# Altium integrated library NSC MiscPower.IntLib: 1417 symbols (part 16 of 39)
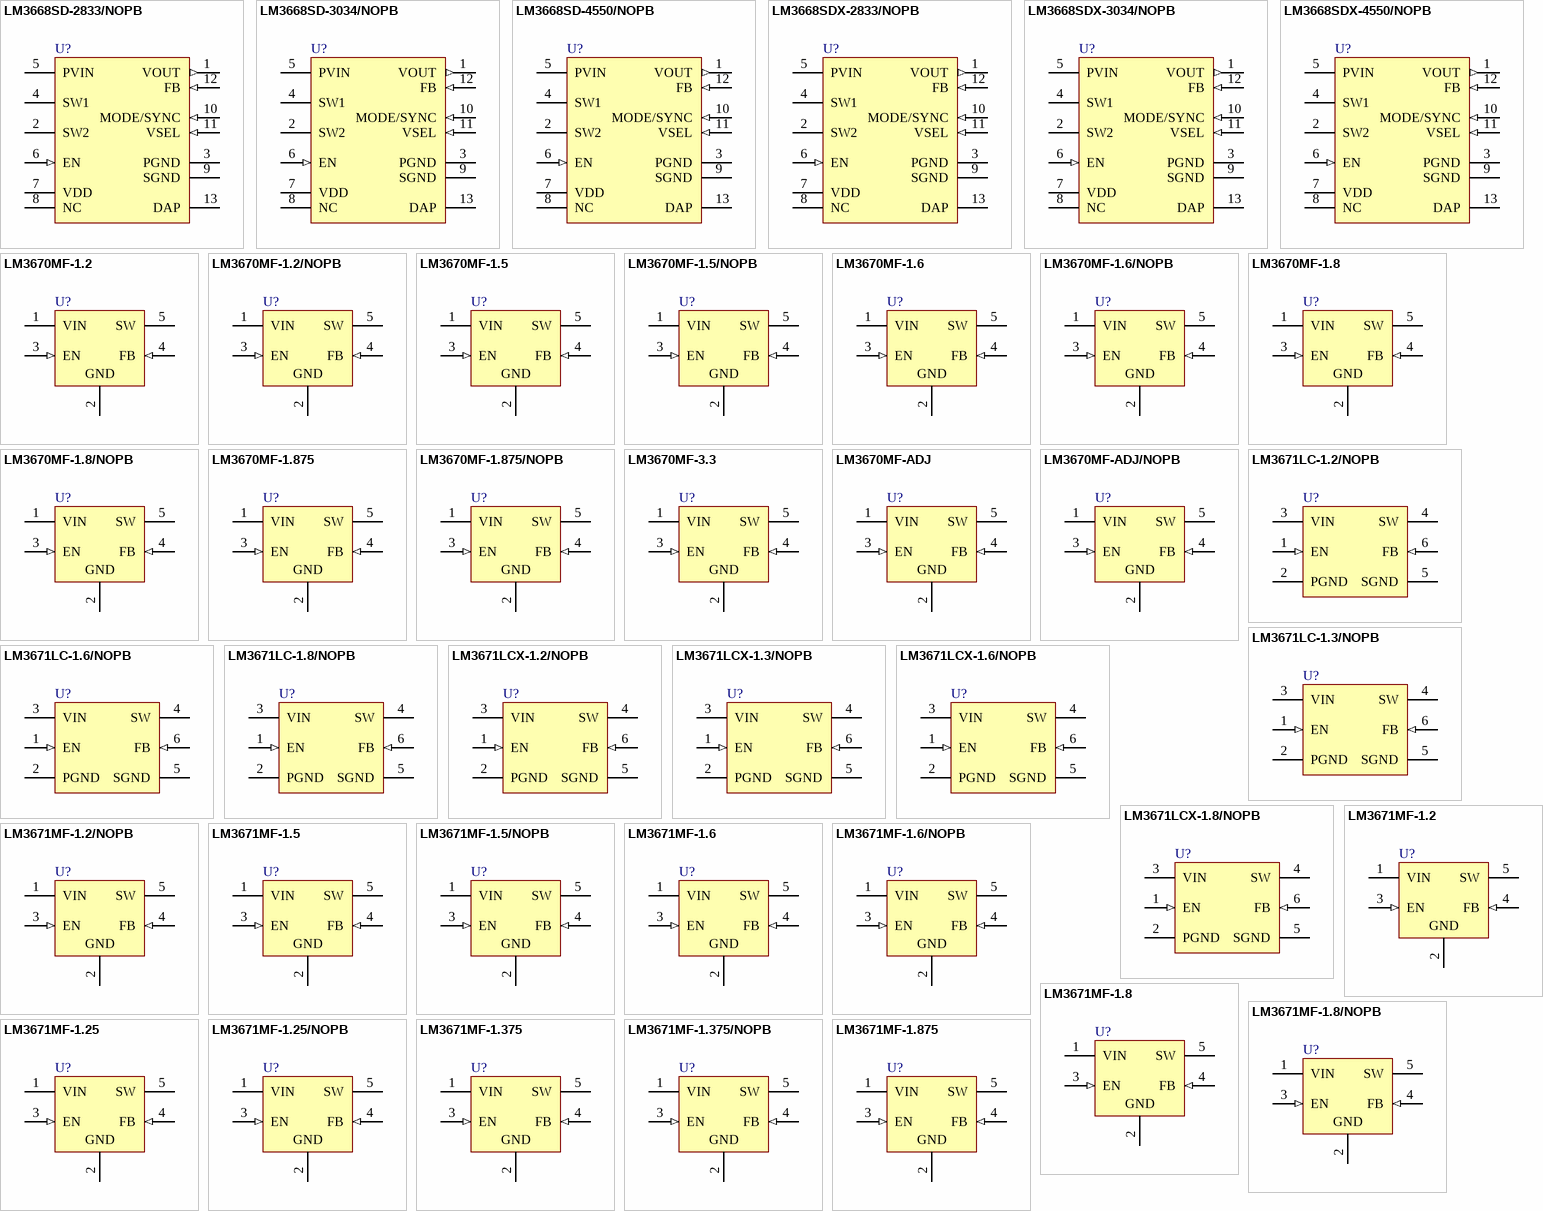
[diagram p66: symbols LM3668SD-2833/NOPB to LM3671MF-1.875]

## LM3670MF-3.3
designator U?
Miniature Step-Down DC-DC Converter for Ultra Low Voltage Circuits, 5-pin SOT-23; PartNumber: LM3670MF-3.3; Manufacturer: National Semiconductor; PackageTopMarking: SDEB*XTT; PowerWise: Y; CompType: MiscPower; Published: 4-Dec-2008; DatasheetVersion: Jan-2006; PackageVersion: revD, Aug-2008; PackageReference: MF05A; Publisher: Altium Limited; PackageDescription: Molded SOT-23, .115 x .063 x .040 in Body, 5 Lead, .0375 in Pitch; RoHS: N; PinCount: 5; ComponentLink1Description: LM3670 Datasheet; ComponentLink1URL: http://www.national.com/ds/LM/LM3670.pdf; ComponentLink2Description: LM3670 Web Page; ComponentLink2URL: http://www.national.com/pf/LM/LM3670.html; ComponentLink3Description: MF05A Package Page; ComponentLink3URL: http://www.national.com/packaging/folders/mf05a.html
footprint MF05A_N (SOT23, 5-Leads, Body 2.9x1.6mm, Pitch 0.95mm, Lead Span 2.8mm, IPC Medium Density)
footprint MF05A_L (SOT23, 5-Leads, Body 2.9x1.6mm, Pitch 0.95mm, Lead Span 2.8mm, IPC High Density)
footprint MF05A_M (SOT23, 5-Leads, Body 2.9x1.6mm, Pitch 0.95mm, Lead Span 2.8mm, IPC Low Density)
pins: 1 VIN (power), 2 GND (power), 3 EN (in), 4 FB (in), 5 SW (power)

## LM3670MF-ADJ
designator U?
Miniature Step-Down DC-DC Converter for Ultra Low Voltage Circuits, 5-pin SOT-23; PartNumber: LM3670MF-ADJ; Manufacturer: National Semiconductor; PackageTopMarking: SDFB*XTT; PowerWise: Y; CompType: MiscPower; Published: 4-Dec-2008; DatasheetVersion: Jan-2006; PackageVersion: revD, Aug-2008; PackageReference: MF05A; Publisher: Altium Limited; PackageDescription: Molded SOT-23, .115 x .063 x .040 in Body, 5 Lead, .0375 in Pitch; Supplier 1: Farnell; Supplier Part Number 1: 1008247; RoHS: N; PinCount: 5; ComponentLink1Description: LM3670 Datasheet; ComponentLink1URL: http://www.national.com/ds/LM/LM3670.pdf; ComponentLink2Description: LM3670 Web Page; ComponentLink2URL: http://www.national.com/pf/LM/LM3670.html; ComponentLink3Description: MF05A Package Page; ComponentLink3URL: http://www.national.com/packaging/folders/mf05a.html
footprint MF05A_N (SOT23, 5-Leads, Body 2.9x1.6mm, Pitch 0.95mm, Lead Span 2.8mm, IPC Medium Density)
footprint MF05A_L (SOT23, 5-Leads, Body 2.9x1.6mm, Pitch 0.95mm, Lead Span 2.8mm, IPC High Density)
footprint MF05A_M (SOT23, 5-Leads, Body 2.9x1.6mm, Pitch 0.95mm, Lead Span 2.8mm, IPC Low Density)
pins: 1 VIN (power), 2 GND (power), 3 EN (in), 4 FB (in), 5 SW (power)

## LM3670MF-ADJ/NOPB
designator U?
Miniature Step-Down DC-DC Converter for Ultra Low Voltage Circuits, 5-pin SOT-23, Pb-Free; PartNumber: LM3670MF-ADJ/NOPB; Manufacturer: National Semiconductor; PackageTopMarking: SDFB*XTT; PowerWise: Y; CompType: MiscPower; Published: 1-Mar-2010; DatasheetVersion: Jan-2006; PackageVersion: revD, Aug-2008; PackageReference: MF05A; Publisher: Altium Limited; PackageDescription: Molded SOT-23, .115 x .063 x .040 in Body, 5 Lead, .0375 in Pitch; Supplier 1: Digi-Key; Supplier Part Number 1: LM3670MF-ADJTR-ND; Supplier 2: Digi-Key; Supplier Part Number 2: LM3670MF-ADJCT-ND; Supplier 3: Digi-Key; Supplier Part Number 3: LM3670MF-ADJDKR-ND; Supplier 4: Farnell; Supplier Part Number 4: 1559453; RoHS: Y; PinCount: 5; ComponentLink1Description: LM3670 Datasheet; ComponentLink1URL: http://www.national.com/ds/LM/LM3670.pdf; ComponentLink2Description: LM3670 Web Page; ComponentLink2URL: http://www.national.com/pf/LM/LM3670.html; ComponentLink3Description: MF05A Package Page; ComponentLink3URL: http://www.national.com/packaging/folders/mf05a.html
footprint MF05A_N (SOT23, 5-Leads, Body 2.9x1.6mm, Pitch 0.95mm, Lead Span 2.8mm, IPC Medium Density)
footprint MF05A_L (SOT23, 5-Leads, Body 2.9x1.6mm, Pitch 0.95mm, Lead Span 2.8mm, IPC High Density)
footprint MF05A_M (SOT23, 5-Leads, Body 2.9x1.6mm, Pitch 0.95mm, Lead Span 2.8mm, IPC Low Density)
pins: 1 VIN (power), 2 GND (power), 3 EN (in), 4 FB (in), 5 SW (power)

## LM3671LC-1.2/NOPB
designator U?
2MHz, 600mA Step-Down DC-DC Converter, 6-pin LLP COL, Pb-Free; PartNumber: LM3671LC-1.2/NOPB; Manufacturer: National Semiconductor; PackageTopMarking: XTT*S39; PowerWise: N; CompType: MiscPower; Published: 1-Mar-2010; DatasheetVersion: Nov-2007; PackageVersion: revA, Oct-2006; PackageReference: LCA06B; Publisher: Altium Limited; PackageDescription: LLP, 2 x 2 x 0.6mm, 6 Lead, 0.5mm Pitch, No Pullback; Supplier 1: Digi-Key; Supplier Part Number 1: LM3671LC-1.2TR-ND; Supplier 2: Digi-Key; Supplier Part Number 2: LM3671LC-1.2CT-ND; Supplier 3: Digi-Key; Supplier Part Number 3: LM3671LC-1.2DKR-ND; RoHS: Y; PinCount: 6; ComponentLink1Description: LM3671 Datasheet; ComponentLink1URL: http://www.national.com/ds/LM/LM3671.pdf; ComponentLink2Description: LM3671 Web Page; ComponentLink2URL: http://www.national.com/pf/LM/LM3671.html; ComponentLink3Description: LCA06B Package Page; ComponentLink3URL: http://www.national.com/packaging/folders/lca06b.html
footprint LCA06B (SON, 6-Leads, Body 2x2mm, Pitch 0.5mm, NSC Recommended)
pins: 1 EN (in), 2 PGND (power), 3 VIN (power), 4 SW (power), 5 SGND (power), 6 FB (in)

## LM3671LC-1.3/NOPB
designator U?
2MHz, 600mA Step-Down DC-DC Converter, 6-pin LLP COL, Pb-Free; PartNumber: LM3671LC-1.3/NOPB; Manufacturer: National Semiconductor; PackageTopMarking: XTT*S40; PowerWise: N; CompType: MiscPower; Published: 1-Mar-2010; DatasheetVersion: Oct-2008; PackageVersion: revA, Oct-2006; PackageReference: LCA06B; Publisher: Altium Limited; PackageDescription: LLP, 2 x 2 x 0.6mm, 6 Lead, 0.5mm Pitch, No Pullback; Supplier 1: Digi-Key; Supplier Part Number 1: LM3671LC-1.3TR-ND; Supplier 2: Digi-Key; Supplier Part Number 2: LM3671LC-1.3CT-ND; Supplier 3: Digi-Key; Supplier Part Number 3: LM3671LC-1.3DKR-ND; RoHS: Y; PinCount: 6; ComponentLink1Description: LM3671 Datasheet; ComponentLink1URL: http://www.national.com/ds/LM/LM3671.pdf; ComponentLink2Description: LM3671 Web Page; ComponentLink2URL: http://www.national.com/pf/LM/LM3671.html; ComponentLink3Description: LCA06B Package Page; ComponentLink3URL: http://www.national.com/packaging/folders/lca06b.html
footprint LCA06B (SON, 6-Leads, Body 2x2mm, Pitch 0.5mm, NSC Recommended)
pins: 1 EN (in), 2 PGND (power), 3 VIN (power), 4 SW (power), 5 SGND (power), 6 FB (in)

## LM3671LC-1.6/NOPB
designator U?
2MHz, 600mA Step-Down DC-DC Converter, 6-pin LLP COL, Pb-Free; PartNumber: LM3671LC-1.6/NOPB; Manufacturer: National Semiconductor; PackageTopMarking: XTT*S41; PowerWise: N; CompType: MiscPower; Published: 1-Mar-2010; DatasheetVersion: Oct-2008; PackageVersion: revA, Oct-2006; PackageReference: LCA06B; Publisher: Altium Limited; PackageDescription: LLP, 2 x 2 x 0.6mm, 6 Lead, 0.5mm Pitch, No Pullback; Supplier 1: Digi-Key; Supplier Part Number 1: LM3671LC-1.6TR-ND; Supplier 2: Digi-Key; Supplier Part Number 2: LM3671LC-1.6CT-ND; Supplier 3: Digi-Key; Supplier Part Number 3: LM3671LC-1.6DKR-ND; RoHS: Y; PinCount: 6; ComponentLink1Description: LM3671 Datasheet; ComponentLink1URL: http://www.national.com/ds/LM/LM3671.pdf; ComponentLink2Description: LM3671 Web Page; ComponentLink2URL: http://www.national.com/pf/LM/LM3671.html; ComponentLink3Description: LCA06B Package Page; ComponentLink3URL: http://www.national.com/packaging/folders/lca06b.html
footprint LCA06B (SON, 6-Leads, Body 2x2mm, Pitch 0.5mm, NSC Recommended)
pins: 1 EN (in), 2 PGND (power), 3 VIN (power), 4 SW (power), 5 SGND (power), 6 FB (in)

## LM3671LC-1.8/NOPB
designator U?
2MHz, 600mA Step-Down DC-DC Converter, 6-pin LLP COL, Pb-Free; PartNumber: LM3671LC-1.8/NOPB; Manufacturer: National Semiconductor; PackageTopMarking: XTT*S42; PowerWise: N; CompType: MiscPower; Published: 1-Mar-2010; DatasheetVersion: Oct-2008; PackageVersion: revA, Oct-2006; PackageReference: LCA06B; Publisher: Altium Limited; PackageDescription: LLP, 2 x 2 x 0.6mm, 6 Lead, 0.5mm Pitch, No Pullback; Supplier 1: Digi-Key; Supplier Part Number 1: LM3671LC-1.8TR-ND; Supplier 2: Digi-Key; Supplier Part Number 2: LM3671LC-1.8CT-ND; Supplier 3: Digi-Key; Supplier Part Number 3: LM3671LC-1.8DKR-ND; RoHS: Y; PinCount: 6; ComponentLink1Description: LM3671 Datasheet; ComponentLink1URL: http://www.national.com/ds/LM/LM3671.pdf; ComponentLink2Description: LM3671 Web Page; ComponentLink2URL: http://www.national.com/pf/LM/LM3671.html; ComponentLink3Description: LCA06B Package Page; ComponentLink3URL: http://www.national.com/packaging/folders/lca06b.html
footprint LCA06B (SON, 6-Leads, Body 2x2mm, Pitch 0.5mm, NSC Recommended)
pins: 1 EN (in), 2 PGND (power), 3 VIN (power), 4 SW (power), 5 SGND (power), 6 FB (in)

## LM3671LCX-1.2/NOPB
designator U?
2MHz, 600mA Step-Down DC-DC Converter, 6-pin LLP COL, Pb-Free; PartNumber: LM3671LCX-1.2/NOPB; Manufacturer: National Semiconductor; PackageTopMarking: XTT*S39; PowerWise: N; CompType: MiscPower; Published: 1-Mar-2010; DatasheetVersion: Nov-2007; PackageVersion: revA, Oct-2006; PackageReference: LCA06B; Publisher: Altium Limited; PackageDescription: LLP, 2 x 2 x 0.6mm, 6 Lead, 0.5mm Pitch, No Pullback; Supplier 1: Digi-Key; Supplier Part Number 1: LM3671LCX-1.2-ND; RoHS: Y; PinCount: 6; ComponentLink1Description: LM3671 Datasheet; ComponentLink1URL: http://www.national.com/ds/LM/LM3671.pdf; ComponentLink2Description: LM3671 Web Page; ComponentLink2URL: http://www.national.com/pf/LM/LM3671.html; ComponentLink3Description: LCA06B Package Page; ComponentLink3URL: http://www.national.com/packaging/folders/lca06b.html
footprint LCA06B (SON, 6-Leads, Body 2x2mm, Pitch 0.5mm, NSC Recommended)
pins: 1 EN (in), 2 PGND (power), 3 VIN (power), 4 SW (power), 5 SGND (power), 6 FB (in)

## LM3671LCX-1.3/NOPB
designator U?
2MHz, 600mA Step-Down DC-DC Converter, 6-pin LLP COL, Pb-Free; PartNumber: LM3671LCX-1.3/NOPB; Manufacturer: National Semiconductor; PackageTopMarking: XTT*S40; PowerWise: N; CompType: MiscPower; Published: 1-Mar-2010; DatasheetVersion: Nov-2007; PackageVersion: revA, Oct-2006; PackageReference: LCA06B; Publisher: Altium Limited; PackageDescription: LLP, 2 x 2 x 0.6mm, 6 Lead, 0.5mm Pitch, No Pullback; Supplier 1: Digi-Key; Supplier Part Number 1: LM3671LCX-1.3-ND; RoHS: Y; PinCount: 6; ComponentLink1Description: LM3671 Datasheet; ComponentLink1URL: http://www.national.com/ds/LM/LM3671.pdf; ComponentLink2Description: LM3671 Web Page; ComponentLink2URL: http://www.national.com/pf/LM/LM3671.html; ComponentLink3Description: LCA06B Package Page; ComponentLink3URL: http://www.national.com/packaging/folders/lca06b.html
footprint LCA06B (SON, 6-Leads, Body 2x2mm, Pitch 0.5mm, NSC Recommended)
pins: 1 EN (in), 2 PGND (power), 3 VIN (power), 4 SW (power), 5 SGND (power), 6 FB (in)

## LM3671LCX-1.6/NOPB
designator U?
2MHz, 600mA Step-Down DC-DC Converter, 6-pin LLP COL, Pb-Free; PartNumber: LM3671LCX-1.6/NOPB; Manufacturer: National Semiconductor; PackageTopMarking: XTT*S41; PowerWise: N; CompType: MiscPower; Published: 1-Mar-2010; DatasheetVersion: Nov-2007; PackageVersion: revA, Oct-2006; PackageReference: LCA06B; Publisher: Altium Limited; PackageDescription: LLP, 2 x 2 x 0.6mm, 6 Lead, 0.5mm Pitch, No Pullback; Supplier 1: Digi-Key; Supplier Part Number 1: LM3671LCX-1.6-ND; RoHS: Y; PinCount: 6; ComponentLink1Description: LM3671 Datasheet; ComponentLink1URL: http://www.national.com/ds/LM/LM3671.pdf; ComponentLink2Description: LM3671 Web Page; ComponentLink2URL: http://www.national.com/pf/LM/LM3671.html; ComponentLink3Description: LCA06B Package Page; ComponentLink3URL: http://www.national.com/packaging/folders/lca06b.html
footprint LCA06B (SON, 6-Leads, Body 2x2mm, Pitch 0.5mm, NSC Recommended)
pins: 1 EN (in), 2 PGND (power), 3 VIN (power), 4 SW (power), 5 SGND (power), 6 FB (in)

## LM3671LCX-1.8/NOPB
designator U?
2MHz, 600mA Step-Down DC-DC Converter, 6-pin LLP COL, Pb-Free; PartNumber: LM3671LCX-1.8/NOPB; Manufacturer: National Semiconductor; PackageTopMarking: XTT*S42; PowerWise: N; CompType: MiscPower; Published: 1-Mar-2010; DatasheetVersion: Nov-2007; PackageVersion: revA, Oct-2006; PackageReference: LCA06B; Publisher: Altium Limited; PackageDescription: LLP, 2 x 2 x 0.6mm, 6 Lead, 0.5mm Pitch, No Pullback; Supplier 1: Digi-Key; Supplier Part Number 1: LM3671LCX-1.8-ND; RoHS: Y; PinCount: 6; ComponentLink1Description: LM3671 Datasheet; ComponentLink1URL: http://www.national.com/ds/LM/LM3671.pdf; ComponentLink2Description: LM3671 Web Page; ComponentLink2URL: http://www.national.com/pf/LM/LM3671.html; ComponentLink3Description: LCA06B Package Page; ComponentLink3URL: http://www.national.com/packaging/folders/lca06b.html
footprint LCA06B (SON, 6-Leads, Body 2x2mm, Pitch 0.5mm, NSC Recommended)
pins: 1 EN (in), 2 PGND (power), 3 VIN (power), 4 SW (power), 5 SGND (power), 6 FB (in)

## LM3671MF-1.2
designator U?
2MHz, 600mA Step-Down DC-DC Converter, 5-pin SOT-23; PartNumber: LM3671MF-1.2; Manufacturer: National Semiconductor; PackageTopMarking: SBPB*XTT; PowerWise: Y; CompType: MiscPower; Published: 4-Dec-2008; DatasheetVersion: Oct-2008; PackageVersion: revD, Aug-2008; PackageReference: MF05A; Publisher: Altium Limited; PackageDescription: Molded SOT-23, .115 x .063 x .040 in Body, 5 Lead, .0375 in Pitch; Supplier 1: Farnell; Supplier Part Number 1: 1008248; RoHS: N; PinCount: 5; ComponentLink1Description: LM3671 Datasheet; ComponentLink1URL: http://www.national.com/ds/LM/LM3671.pdf; ComponentLink2Description: LM3671 Web Page; ComponentLink2URL: http://www.national.com/pf/LM/LM3671.html; ComponentLink3Description: MF05A Package Page; ComponentLink3URL: http://www.national.com/packaging/folders/mf05a.html
footprint MF05A_N (SOT23, 5-Leads, Body 2.9x1.6mm, Pitch 0.95mm, Lead Span 2.8mm, IPC Medium Density)
footprint MF05A_L (SOT23, 5-Leads, Body 2.9x1.6mm, Pitch 0.95mm, Lead Span 2.8mm, IPC High Density)
footprint MF05A_M (SOT23, 5-Leads, Body 2.9x1.6mm, Pitch 0.95mm, Lead Span 2.8mm, IPC Low Density)
pins: 1 VIN (power), 2 GND (power), 3 EN (in), 4 FB (in), 5 SW (power)

## LM3671MF-1.2/NOPB
designator U?
2MHz, 600mA Step-Down DC-DC Converter, 5-pin SOT-23, Pb-Free; PartNumber: LM3671MF-1.2/NOPB; Manufacturer: National Semiconductor; PackageTopMarking: SBPB*XTT; PowerWise: Y; CompType: MiscPower; Published: 1-Mar-2010; DatasheetVersion: Oct-2008; PackageVersion: revD, Aug-2008; PackageReference: MF05A; Publisher: Altium Limited; PackageDescription: Molded SOT-23, .115 x .063 x .040 in Body, 5 Lead, .0375 in Pitch; Supplier 1: Digi-Key; Supplier Part Number 1: LM3671MF-1.2TR-ND; Supplier 2: Digi-Key; Supplier Part Number 2: LM3671MF-1.2CT-ND; Supplier 3: Digi-Key; Supplier Part Number 3: LM3671MF-1.2DKR-ND; Supplier 4: Farnell; Supplier Part Number 4: 1685653; RoHS: Y; PinCount: 5; ComponentLink1Description: LM3671 Datasheet; ComponentLink1URL: http://www.national.com/ds/LM/LM3671.pdf; ComponentLink2Description: LM3671 Web Page; ComponentLink2URL: http://www.national.com/pf/LM/LM3671.html; ComponentLink3Description: MF05A Package Page; ComponentLink3URL: http://www.national.com/packaging/folders/mf05a.html
footprint MF05A_N (SOT23, 5-Leads, Body 2.9x1.6mm, Pitch 0.95mm, Lead Span 2.8mm, IPC Medium Density)
footprint MF05A_L (SOT23, 5-Leads, Body 2.9x1.6mm, Pitch 0.95mm, Lead Span 2.8mm, IPC High Density)
footprint MF05A_M (SOT23, 5-Leads, Body 2.9x1.6mm, Pitch 0.95mm, Lead Span 2.8mm, IPC Low Density)
pins: 1 VIN (power), 2 GND (power), 3 EN (in), 4 FB (in), 5 SW (power)

## LM3671MF-1.5
designator U?
2MHz, 600mA Step-Down DC-DC Converter, 5-pin SOT-23; PartNumber: LM3671MF-1.5; Manufacturer: National Semiconductor; PackageTopMarking: SBRB*XTT; PowerWise: Y; CompType: MiscPower; Published: 4-Dec-2008; DatasheetVersion: Oct-2008; PackageVersion: revD, Aug-2008; PackageReference: MF05A; Publisher: Altium Limited; PackageDescription: Molded SOT-23, .115 x .063 x .040 in Body, 5 Lead, .0375 in Pitch; Supplier 1: Farnell; Supplier Part Number 1: 1008253; RoHS: N; PinCount: 5; ComponentLink1Description: LM3671 Datasheet; ComponentLink1URL: http://www.national.com/ds/LM/LM3671.pdf; ComponentLink2Description: LM3671 Web Page; ComponentLink2URL: http://www.national.com/pf/LM/LM3671.html; ComponentLink3Description: MF05A Package Page; ComponentLink3URL: http://www.national.com/packaging/folders/mf05a.html
footprint MF05A_N (SOT23, 5-Leads, Body 2.9x1.6mm, Pitch 0.95mm, Lead Span 2.8mm, IPC Medium Density)
footprint MF05A_L (SOT23, 5-Leads, Body 2.9x1.6mm, Pitch 0.95mm, Lead Span 2.8mm, IPC High Density)
footprint MF05A_M (SOT23, 5-Leads, Body 2.9x1.6mm, Pitch 0.95mm, Lead Span 2.8mm, IPC Low Density)
pins: 1 VIN (power), 2 GND (power), 3 EN (in), 4 FB (in), 5 SW (power)

## LM3671MF-1.5/NOPB
designator U?
2MHz, 600mA Step-Down DC-DC Converter, 5-pin SOT-23, Pb-Free; PartNumber: LM3671MF-1.5/NOPB; Manufacturer: National Semiconductor; PackageTopMarking: SBRB*XTT; PowerWise: Y; CompType: MiscPower; Published: 1-Mar-2010; DatasheetVersion: Oct-2008; PackageVersion: revD, Aug-2008; PackageReference: MF05A; Publisher: Altium Limited; PackageDescription: Molded SOT-23, .115 x .063 x .040 in Body, 5 Lead, .0375 in Pitch; Supplier 1: Digi-Key; Supplier Part Number 1: LM3671MF-1.5TR-ND; Supplier 2: Digi-Key; Supplier Part Number 2: LM3671MF-1.5CT-ND; Supplier 3: Digi-Key; Supplier Part Number 3: LM3671MF-1.5DKR-ND; Supplier 4: Farnell; Supplier Part Number 4: 1694016; RoHS: Y; PinCount: 5; ComponentLink1Description: LM3671 Datasheet; ComponentLink1URL: http://www.national.com/ds/LM/LM3671.pdf; ComponentLink2Description: LM3671 Web Page; ComponentLink2URL: http://www.national.com/pf/LM/LM3671.html; ComponentLink3Description: MF05A Package Page; ComponentLink3URL: http://www.national.com/packaging/folders/mf05a.html
footprint MF05A_N (SOT23, 5-Leads, Body 2.9x1.6mm, Pitch 0.95mm, Lead Span 2.8mm, IPC Medium Density)
footprint MF05A_L (SOT23, 5-Leads, Body 2.9x1.6mm, Pitch 0.95mm, Lead Span 2.8mm, IPC High Density)
footprint MF05A_M (SOT23, 5-Leads, Body 2.9x1.6mm, Pitch 0.95mm, Lead Span 2.8mm, IPC Low Density)
pins: 1 VIN (power), 2 GND (power), 3 EN (in), 4 FB (in), 5 SW (power)

## LM3671MF-1.6
designator U?
2MHz, 600mA Step-Down DC-DC Converter, 5-pin SOT-23; PartNumber: LM3671MF-1.6; Manufacturer: National Semiconductor; PackageTopMarking: SDUB*XTT; PowerWise: Y; CompType: MiscPower; Published: 4-Dec-2008; DatasheetVersion: Oct-2008; PackageVersion: revD, Aug-2008; PackageReference: MF05A; Publisher: Altium Limited; PackageDescription: Molded SOT-23, .115 x .063 x .040 in Body, 5 Lead, .0375 in Pitch; Supplier 1: Digi-Key; Supplier Part Number 1: LM3671MF-1.6TR-ND; Supplier 2: Digi-Key; Supplier Part Number 2: LM3671MF-1.6CT-ND; Supplier 3: Digi-Key; Supplier Part Number 3: LM3671MF-1.6DKR-ND; Supplier 4: Farnell; Supplier Part Number 4: 1008254; RoHS: N; PinCount: 5; ComponentLink1Description: LM3671 Datasheet; ComponentLink1URL: http://www.national.com/ds/LM/LM3671.pdf; ComponentLink2Description: LM3671 Web Page; ComponentLink2URL: http://www.national.com/pf/LM/LM3671.html; ComponentLink3Description: MF05A Package Page; ComponentLink3URL: http://www.national.com/packaging/folders/mf05a.html
footprint MF05A_N (SOT23, 5-Leads, Body 2.9x1.6mm, Pitch 0.95mm, Lead Span 2.8mm, IPC Medium Density)
footprint MF05A_L (SOT23, 5-Leads, Body 2.9x1.6mm, Pitch 0.95mm, Lead Span 2.8mm, IPC High Density)
footprint MF05A_M (SOT23, 5-Leads, Body 2.9x1.6mm, Pitch 0.95mm, Lead Span 2.8mm, IPC Low Density)
pins: 1 VIN (power), 2 GND (power), 3 EN (in), 4 FB (in), 5 SW (power)

## LM3671MF-1.6/NOPB
designator U?
2MHz, 600mA Step-Down DC-DC Converter, 5-pin SOT-23, Pb-Free; PartNumber: LM3671MF-1.6/NOPB; Manufacturer: National Semiconductor; PackageTopMarking: SDUB*XTT; PowerWise: Y; CompType: MiscPower; Published: 1-Mar-2010; DatasheetVersion: Oct-2008; PackageVersion: revD, Aug-2008; PackageReference: MF05A; Publisher: Altium Limited; PackageDescription: Molded SOT-23, .115 x .063 x .040 in Body, 5 Lead, .0375 in Pitch; RoHS: Y; PinCount: 5; ComponentLink1Description: LM3671 Datasheet; ComponentLink1URL: http://www.national.com/ds/LM/LM3671.pdf; ComponentLink2Description: LM3671 Web Page; ComponentLink2URL: http://www.national.com/pf/LM/LM3671.html; ComponentLink3Description: MF05A Package Page; ComponentLink3URL: http://www.national.com/packaging/folders/mf05a.html
footprint MF05A_N (SOT23, 5-Leads, Body 2.9x1.6mm, Pitch 0.95mm, Lead Span 2.8mm, IPC Medium Density)
footprint MF05A_L (SOT23, 5-Leads, Body 2.9x1.6mm, Pitch 0.95mm, Lead Span 2.8mm, IPC High Density)
footprint MF05A_M (SOT23, 5-Leads, Body 2.9x1.6mm, Pitch 0.95mm, Lead Span 2.8mm, IPC Low Density)
pins: 1 VIN (power), 2 GND (power), 3 EN (in), 4 FB (in), 5 SW (power)

## LM3671MF-1.8
designator U?
2MHz, 600mA Step-Down DC-DC Converter, 5-pin SOT-23; PartNumber: LM3671MF-1.8; Manufacturer: National Semiconductor; PackageTopMarking: SBSB*XTT; PowerWise: Y; CompType: MiscPower; Published: 4-Dec-2008; DatasheetVersion: Oct-2008; PackageVersion: revD, Aug-2008; PackageReference: MF05A; Publisher: Altium Limited; PackageDescription: Molded SOT-23, .115 x .063 x .040 in Body, 5 Lead, .0375 in Pitch; RoHS: N; PinCount: 5; ComponentLink1Description: LM3671 Datasheet; ComponentLink1URL: http://www.national.com/ds/LM/LM3671.pdf; ComponentLink2Description: LM3671 Web Page; ComponentLink2URL: http://www.national.com/pf/LM/LM3671.html; ComponentLink3Description: MF05A Package Page; ComponentLink3URL: http://www.national.com/packaging/folders/mf05a.html
footprint MF05A_N (SOT23, 5-Leads, Body 2.9x1.6mm, Pitch 0.95mm, Lead Span 2.8mm, IPC Medium Density)
footprint MF05A_L (SOT23, 5-Leads, Body 2.9x1.6mm, Pitch 0.95mm, Lead Span 2.8mm, IPC High Density)
footprint MF05A_M (SOT23, 5-Leads, Body 2.9x1.6mm, Pitch 0.95mm, Lead Span 2.8mm, IPC Low Density)
pins: 1 VIN (power), 2 GND (power), 3 EN (in), 4 FB (in), 5 SW (power)

## LM3671MF-1.8/NOPB
designator U?
2MHz, 600mA Step-Down DC-DC Converter, 5-pin SOT-23, Pb-Free; PartNumber: LM3671MF-1.8/NOPB; Manufacturer: National Semiconductor; PackageTopMarking: SBSB*XTT; PowerWise: Y; CompType: MiscPower; Published: 1-Mar-2010; DatasheetVersion: Oct-2008; PackageVersion: revD, Aug-2008; PackageReference: MF05A; Publisher: Altium Limited; PackageDescription: Molded SOT-23, .115 x .063 x .040 in Body, 5 Lead, .0375 in Pitch; Supplier 1: Digi-Key; Supplier Part Number 1: LM3671MF-1.8TR-ND; Supplier 2: Digi-Key; Supplier Part Number 2: LM3671MF-1.8CT-ND; Supplier 3: Digi-Key; Supplier Part Number 3: LM3671MF-1.8DKR-ND; Supplier 4: Farnell; Supplier Part Number 4: 1685654; RoHS: Y; PinCount: 5; ComponentLink1Description: LM3671 Datasheet; ComponentLink1URL: http://www.national.com/ds/LM/LM3671.pdf; ComponentLink2Description: LM3671 Web Page; ComponentLink2URL: http://www.national.com/pf/LM/LM3671.html; ComponentLink3Description: MF05A Package Page; ComponentLink3URL: http://www.national.com/packaging/folders/mf05a.html
footprint MF05A_N (SOT23, 5-Leads, Body 2.9x1.6mm, Pitch 0.95mm, Lead Span 2.8mm, IPC Medium Density)
footprint MF05A_L (SOT23, 5-Leads, Body 2.9x1.6mm, Pitch 0.95mm, Lead Span 2.8mm, IPC High Density)
footprint MF05A_M (SOT23, 5-Leads, Body 2.9x1.6mm, Pitch 0.95mm, Lead Span 2.8mm, IPC Low Density)
pins: 1 VIN (power), 2 GND (power), 3 EN (in), 4 FB (in), 5 SW (power)

## LM3671MF-1.25
designator U?
2MHz, 600mA Step-Down DC-DC Converter, 5-pin SOT-23; PartNumber: LM3671MF-1.25; Manufacturer: National Semiconductor; PackageTopMarking: SDRB*XTT; PowerWise: Y; CompType: MiscPower; Published: 4-Dec-2008; DatasheetVersion: Oct-2008; PackageVersion: revD, Aug-2008; PackageReference: MF05A; Publisher: Altium Limited; PackageDescription: Molded SOT-23, .115 x .063 x .040 in Body, 5 Lead, .0375 in Pitch; Supplier 1: Farnell; Supplier Part Number 1: 1008251; RoHS: N; PinCount: 5; ComponentLink1Description: LM3671 Datasheet; ComponentLink1URL: http://www.national.com/ds/LM/LM3671.pdf; ComponentLink2Description: LM3671 Web Page; ComponentLink2URL: http://www.national.com/pf/LM/LM3671.html; ComponentLink3Description: MF05A Package Page; ComponentLink3URL: http://www.national.com/packaging/folders/mf05a.html
footprint MF05A_N (SOT23, 5-Leads, Body 2.9x1.6mm, Pitch 0.95mm, Lead Span 2.8mm, IPC Medium Density)
footprint MF05A_L (SOT23, 5-Leads, Body 2.9x1.6mm, Pitch 0.95mm, Lead Span 2.8mm, IPC High Density)
footprint MF05A_M (SOT23, 5-Leads, Body 2.9x1.6mm, Pitch 0.95mm, Lead Span 2.8mm, IPC Low Density)
pins: 1 VIN (power), 2 GND (power), 3 EN (in), 4 FB (in), 5 SW (power)

## LM3671MF-1.25/NOPB
designator U?
2MHz, 600mA Step-Down DC-DC Converter, 5-pin SOT-23, Pb-Free; PartNumber: LM3671MF-1.25/NOPB; Manufacturer: National Semiconductor; PackageTopMarking: SDRB*XTT; PowerWise: Y; CompType: MiscPower; Published: 1-Mar-2010; DatasheetVersion: Oct-2008; PackageVersion: revD, Aug-2008; PackageReference: MF05A; Publisher: Altium Limited; PackageDescription: Molded SOT-23, .115 x .063 x .040 in Body, 5 Lead, .0375 in Pitch; Supplier 1: Digi-Key; Supplier Part Number 1: LM3671MF-1.25TR-ND; Supplier 2: Digi-Key; Supplier Part Number 2: LM3671MF-1.25CT-ND; Supplier 3: Digi-Key; Supplier Part Number 3: LM3671MF-1.25DKR-ND; RoHS: Y; PinCount: 5; ComponentLink1Description: LM3671 Datasheet; ComponentLink1URL: http://www.national.com/ds/LM/LM3671.pdf; ComponentLink2Description: LM3671 Web Page; ComponentLink2URL: http://www.national.com/pf/LM/LM3671.html; ComponentLink3Description: MF05A Package Page; ComponentLink3URL: http://www.national.com/packaging/folders/mf05a.html
footprint MF05A_N (SOT23, 5-Leads, Body 2.9x1.6mm, Pitch 0.95mm, Lead Span 2.8mm, IPC Medium Density)
footprint MF05A_L (SOT23, 5-Leads, Body 2.9x1.6mm, Pitch 0.95mm, Lead Span 2.8mm, IPC High Density)
footprint MF05A_M (SOT23, 5-Leads, Body 2.9x1.6mm, Pitch 0.95mm, Lead Span 2.8mm, IPC Low Density)
pins: 1 VIN (power), 2 GND (power), 3 EN (in), 4 FB (in), 5 SW (power)

## LM3671MF-1.375
designator U?
2MHz, 600mA Step-Down DC-DC Converter, 5-pin SOT-23; PartNumber: LM3671MF-1.375; Manufacturer: National Semiconductor; PackageTopMarking: SEDB*XTT; PowerWise: Y; CompType: MiscPower; Published: 4-Dec-2008; DatasheetVersion: Oct-2008; PackageVersion: revD, Aug-2008; PackageReference: MF05A; Publisher: Altium Limited; PackageDescription: Molded SOT-23, .115 x .063 x .040 in Body, 5 Lead, .0375 in Pitch; Supplier 1: Farnell; Supplier Part Number 1: 1008252; RoHS: N; PinCount: 5; ComponentLink1Description: LM3671 Datasheet; ComponentLink1URL: http://www.national.com/ds/LM/LM3671.pdf; ComponentLink2Description: LM3671 Web Page; ComponentLink2URL: http://www.national.com/pf/LM/LM3671.html; ComponentLink3Description: MF05A Package Page; ComponentLink3URL: http://www.national.com/packaging/folders/mf05a.html
footprint MF05A_N (SOT23, 5-Leads, Body 2.9x1.6mm, Pitch 0.95mm, Lead Span 2.8mm, IPC Medium Density)
footprint MF05A_L (SOT23, 5-Leads, Body 2.9x1.6mm, Pitch 0.95mm, Lead Span 2.8mm, IPC High Density)
footprint MF05A_M (SOT23, 5-Leads, Body 2.9x1.6mm, Pitch 0.95mm, Lead Span 2.8mm, IPC Low Density)
pins: 1 VIN (power), 2 GND (power), 3 EN (in), 4 FB (in), 5 SW (power)

## LM3671MF-1.375/NOPB
designator U?
2MHz, 600mA Step-Down DC-DC Converter, 5-pin SOT-23, Pb-Free; PartNumber: LM3671MF-1.375/NOPB; Manufacturer: National Semiconductor; PackageTopMarking: SEDB*XTT; PowerWise: Y; CompType: MiscPower; Published: 1-Mar-2010; DatasheetVersion: Oct-2008; PackageVersion: revD, Aug-2008; PackageReference: MF05A; Publisher: Altium Limited; PackageDescription: Molded SOT-23, .115 x .063 x .040 in Body, 5 Lead, .0375 in Pitch; Supplier 1: Digi-Key; Supplier Part Number 1: LM3671MF-1.375TR-ND; Supplier 2: Digi-Key; Supplier Part Number 2: LM3671MF-1.375CT-ND; Supplier 3: Digi-Key; Supplier Part Number 3: LM3671MF-1.375DKR-ND; RoHS: Y; PinCount: 5; ComponentLink1Description: LM3671 Datasheet; ComponentLink1URL: http://www.national.com/ds/LM/LM3671.pdf; ComponentLink2Description: LM3671 Web Page; ComponentLink2URL: http://www.national.com/pf/LM/LM3671.html; ComponentLink3Description: MF05A Package Page; ComponentLink3URL: http://www.national.com/packaging/folders/mf05a.html
footprint MF05A_N (SOT23, 5-Leads, Body 2.9x1.6mm, Pitch 0.95mm, Lead Span 2.8mm, IPC Medium Density)
footprint MF05A_L (SOT23, 5-Leads, Body 2.9x1.6mm, Pitch 0.95mm, Lead Span 2.8mm, IPC High Density)
footprint MF05A_M (SOT23, 5-Leads, Body 2.9x1.6mm, Pitch 0.95mm, Lead Span 2.8mm, IPC Low Density)
pins: 1 VIN (power), 2 GND (power), 3 EN (in), 4 FB (in), 5 SW (power)

## LM3671MF-1.875
designator U?
2MHz, 600mA Step-Down DC-DC Converter, 5-pin SOT-23; PartNumber: LM3671MF-1.875; Manufacturer: National Semiconductor; PackageTopMarking: SDVB*XTT; PowerWise: Y; CompType: MiscPower; Published: 4-Dec-2008; DatasheetVersion: Oct-2008; PackageVersion: revD, Aug-2008; PackageReference: MF05A; Publisher: Altium Limited; PackageDescription: Molded SOT-23, .115 x .063 x .040 in Body, 5 Lead, .0375 in Pitch; Supplier 1: Farnell; Supplier Part Number 1: 1008255; RoHS: N; PinCount: 5; ComponentLink1Description: LM3671 Datasheet; ComponentLink1URL: http://www.national.com/ds/LM/LM3671.pdf; ComponentLink2Description: LM3671 Web Page; ComponentLink2URL: http://www.national.com/pf/LM/LM3671.html; ComponentLink3Description: MF05A Package Page; ComponentLink3URL: http://www.national.com/packaging/folders/mf05a.html
footprint MF05A_N (SOT23, 5-Leads, Body 2.9x1.6mm, Pitch 0.95mm, Lead Span 2.8mm, IPC Medium Density)
footprint MF05A_L (SOT23, 5-Leads, Body 2.9x1.6mm, Pitch 0.95mm, Lead Span 2.8mm, IPC High Density)
footprint MF05A_M (SOT23, 5-Leads, Body 2.9x1.6mm, Pitch 0.95mm, Lead Span 2.8mm, IPC Low Density)
pins: 1 VIN (power), 2 GND (power), 3 EN (in), 4 FB (in), 5 SW (power)

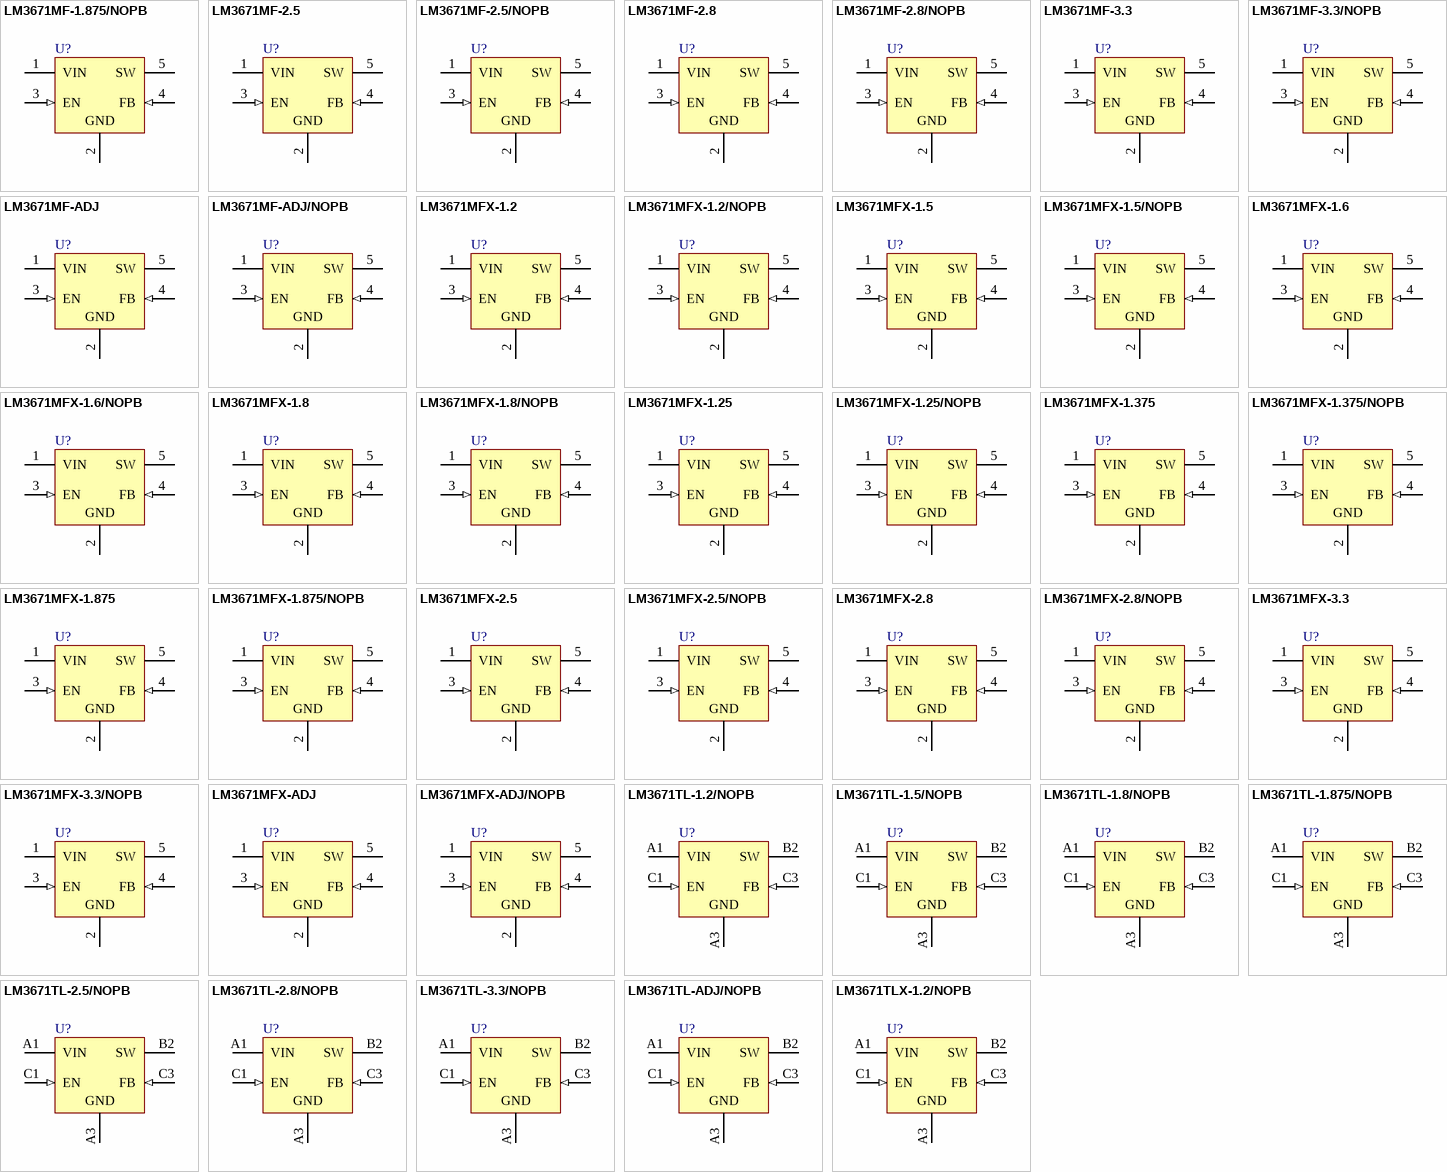
[diagram p18: symbols LM3671MF-1.875/NOPB to LM3671TLX-1.2/NOPB]

## LM3671MF-1.875/NOPB
designator U?
2MHz, 600mA Step-Down DC-DC Converter, 5-pin SOT-23, Pb-Free; PartNumber: LM3671MF-1.875/NOPB; Manufacturer: National Semiconductor; PackageTopMarking: SDVB*XTT; PowerWise: Y; CompType: MiscPower; Published: 1-Mar-2010; DatasheetVersion: Oct-2008; PackageVersion: revD, Aug-2008; PackageReference: MF05A; Publisher: Altium Limited; PackageDescription: Molded SOT-23, .115 x .063 x .040 in Body, 5 Lead, .0375 in Pitch; Supplier 1: Digi-Key; Supplier Part Number 1: LM3671MF-1.875TR-ND; Supplier 2: Digi-Key; Supplier Part Number 2: LM3671MF-1.875CT-ND; Supplier 3: Digi-Key; Supplier Part Number 3: LM3671MF-1.875DKR-ND; RoHS: Y; PinCount: 5; ComponentLink1Description: LM3671 Datasheet; ComponentLink1URL: http://www.national.com/ds/LM/LM3671.pdf; ComponentLink2Description: LM3671 Web Page; ComponentLink2URL: http://www.national.com/pf/LM/LM3671.html; ComponentLink3Description: MF05A Package Page; ComponentLink3URL: http://www.national.com/packaging/folders/mf05a.html
footprint MF05A_N (SOT23, 5-Leads, Body 2.9x1.6mm, Pitch 0.95mm, Lead Span 2.8mm, IPC Medium Density)
footprint MF05A_L (SOT23, 5-Leads, Body 2.9x1.6mm, Pitch 0.95mm, Lead Span 2.8mm, IPC High Density)
footprint MF05A_M (SOT23, 5-Leads, Body 2.9x1.6mm, Pitch 0.95mm, Lead Span 2.8mm, IPC Low Density)
pins: 1 VIN (power), 2 GND (power), 3 EN (in), 4 FB (in), 5 SW (power)

## LM3671MF-2.5
designator U?
2MHz, 600mA Step-Down DC-DC Converter, 5-pin SOT-23; PartNumber: LM3671MF-2.5; Manufacturer: National Semiconductor; PackageTopMarking: SJRB*XTT; PowerWise: Y; CompType: MiscPower; Published: 4-Dec-2008; DatasheetVersion: Oct-2008; PackageVersion: revD, Aug-2008; PackageReference: MF05A; Publisher: Altium Limited; PackageDescription: Molded SOT-23, .115 x .063 x .040 in Body, 5 Lead, .0375 in Pitch; RoHS: N; PinCount: 5; ComponentLink1Description: LM3671 Datasheet; ComponentLink1URL: http://www.national.com/ds/LM/LM3671.pdf; ComponentLink2Description: LM3671 Web Page; ComponentLink2URL: http://www.national.com/pf/LM/LM3671.html; ComponentLink3Description: MF05A Package Page; ComponentLink3URL: http://www.national.com/packaging/folders/mf05a.html
footprint MF05A_N (SOT23, 5-Leads, Body 2.9x1.6mm, Pitch 0.95mm, Lead Span 2.8mm, IPC Medium Density)
footprint MF05A_L (SOT23, 5-Leads, Body 2.9x1.6mm, Pitch 0.95mm, Lead Span 2.8mm, IPC High Density)
footprint MF05A_M (SOT23, 5-Leads, Body 2.9x1.6mm, Pitch 0.95mm, Lead Span 2.8mm, IPC Low Density)
pins: 1 VIN (power), 2 GND (power), 3 EN (in), 4 FB (in), 5 SW (power)

## LM3671MF-2.5/NOPB
designator U?
2MHz, 600mA Step-Down DC-DC Converter, 5-pin SOT-23, Pb-Free; PartNumber: LM3671MF-2.5/NOPB; Manufacturer: National Semiconductor; PackageTopMarking: SJRB*XTT; PowerWise: Y; CompType: MiscPower; Published: 1-Mar-2010; DatasheetVersion: Oct-2008; PackageVersion: revD, Aug-2008; PackageReference: MF05A; Publisher: Altium Limited; PackageDescription: Molded SOT-23, .115 x .063 x .040 in Body, 5 Lead, .0375 in Pitch; Supplier 1: Digi-Key; Supplier Part Number 1: LM3671MF-2.5TR-ND; Supplier 2: Digi-Key; Supplier Part Number 2: LM3671MF-2.5CT-ND; Supplier 3: Digi-Key; Supplier Part Number 3: LM3671MF-2.5DKR-ND; Supplier 4: Farnell; Supplier Part Number 4: 1694624; RoHS: Y; PinCount: 5; ComponentLink1Description: LM3671 Datasheet; ComponentLink1URL: http://www.national.com/ds/LM/LM3671.pdf; ComponentLink2Description: LM3671 Web Page; ComponentLink2URL: http://www.national.com/pf/LM/LM3671.html; ComponentLink3Description: MF05A Package Page; ComponentLink3URL: http://www.national.com/packaging/folders/mf05a.html
footprint MF05A_N (SOT23, 5-Leads, Body 2.9x1.6mm, Pitch 0.95mm, Lead Span 2.8mm, IPC Medium Density)
footprint MF05A_L (SOT23, 5-Leads, Body 2.9x1.6mm, Pitch 0.95mm, Lead Span 2.8mm, IPC High Density)
footprint MF05A_M (SOT23, 5-Leads, Body 2.9x1.6mm, Pitch 0.95mm, Lead Span 2.8mm, IPC Low Density)
pins: 1 VIN (power), 2 GND (power), 3 EN (in), 4 FB (in), 5 SW (power)

## LM3671MF-2.8
designator U?
2MHz, 600mA Step-Down DC-DC Converter, 5-pin SOT-23; PartNumber: LM3671MF-2.8; Manufacturer: National Semiconductor; PackageTopMarking: SJSB*XTT; PowerWise: Y; CompType: MiscPower; Published: 4-Dec-2008; DatasheetVersion: Oct-2008; PackageVersion: revD, Aug-2008; PackageReference: MF05A; Publisher: Altium Limited; PackageDescription: Molded SOT-23, .115 x .063 x .040 in Body, 5 Lead, .0375 in Pitch; RoHS: N; PinCount: 5; ComponentLink1Description: LM3671 Datasheet; ComponentLink1URL: http://www.national.com/ds/LM/LM3671.pdf; ComponentLink2Description: LM3671 Web Page; ComponentLink2URL: http://www.national.com/pf/LM/LM3671.html; ComponentLink3Description: MF05A Package Page; ComponentLink3URL: http://www.national.com/packaging/folders/mf05a.html
footprint MF05A_N (SOT23, 5-Leads, Body 2.9x1.6mm, Pitch 0.95mm, Lead Span 2.8mm, IPC Medium Density)
footprint MF05A_L (SOT23, 5-Leads, Body 2.9x1.6mm, Pitch 0.95mm, Lead Span 2.8mm, IPC High Density)
footprint MF05A_M (SOT23, 5-Leads, Body 2.9x1.6mm, Pitch 0.95mm, Lead Span 2.8mm, IPC Low Density)
pins: 1 VIN (power), 2 GND (power), 3 EN (in), 4 FB (in), 5 SW (power)

## LM3671MF-2.8/NOPB
designator U?
2MHz, 600mA Step-Down DC-DC Converter, 5-pin SOT-23, Pb-Free; PartNumber: LM3671MF-2.8/NOPB; Manufacturer: National Semiconductor; PackageTopMarking: SJSB*XTT; PowerWise: Y; CompType: MiscPower; Published: 1-Mar-2010; DatasheetVersion: Oct-2008; PackageVersion: revD, Aug-2008; PackageReference: MF05A; Publisher: Altium Limited; PackageDescription: Molded SOT-23, .115 x .063 x .040 in Body, 5 Lead, .0375 in Pitch; Supplier 1: Digi-Key; Supplier Part Number 1: LM3671MF-2.8/NOPBTR-ND; Supplier 2: Digi-Key; Supplier Part Number 2: LM3671MF-2.8/NOPBCT-ND; Supplier 3: Digi-Key; Supplier Part Number 3: LM3671MF-2.8/NOPBDKR-ND; RoHS: Y; PinCount: 5; ComponentLink1Description: LM3671 Datasheet; ComponentLink1URL: http://www.national.com/ds/LM/LM3671.pdf; ComponentLink2Description: LM3671 Web Page; ComponentLink2URL: http://www.national.com/pf/LM/LM3671.html; ComponentLink3Description: MF05A Package Page; ComponentLink3URL: http://www.national.com/packaging/folders/mf05a.html
footprint MF05A_N (SOT23, 5-Leads, Body 2.9x1.6mm, Pitch 0.95mm, Lead Span 2.8mm, IPC Medium Density)
footprint MF05A_L (SOT23, 5-Leads, Body 2.9x1.6mm, Pitch 0.95mm, Lead Span 2.8mm, IPC High Density)
footprint MF05A_M (SOT23, 5-Leads, Body 2.9x1.6mm, Pitch 0.95mm, Lead Span 2.8mm, IPC Low Density)
pins: 1 VIN (power), 2 GND (power), 3 EN (in), 4 FB (in), 5 SW (power)

## LM3671MF-3.3
designator U?
2MHz, 600mA Step-Down DC-DC Converter, 5-pin SOT-23; PartNumber: LM3671MF-3.3; Manufacturer: National Semiconductor; PackageTopMarking: SJEB*XTT; PowerWise: Y; CompType: MiscPower; Published: 4-Dec-2008; DatasheetVersion: Oct-2008; PackageVersion: revD, Aug-2008; PackageReference: MF05A; Publisher: Altium Limited; PackageDescription: Molded SOT-23, .115 x .063 x .040 in Body, 5 Lead, .0375 in Pitch; RoHS: N; PinCount: 5; ComponentLink1Description: LM3671 Datasheet; ComponentLink1URL: http://www.national.com/ds/LM/LM3671.pdf; ComponentLink2Description: LM3671 Web Page; ComponentLink2URL: http://www.national.com/pf/LM/LM3671.html; ComponentLink3Description: MF05A Package Page; ComponentLink3URL: http://www.national.com/packaging/folders/mf05a.html
footprint MF05A_N (SOT23, 5-Leads, Body 2.9x1.6mm, Pitch 0.95mm, Lead Span 2.8mm, IPC Medium Density)
footprint MF05A_L (SOT23, 5-Leads, Body 2.9x1.6mm, Pitch 0.95mm, Lead Span 2.8mm, IPC High Density)
footprint MF05A_M (SOT23, 5-Leads, Body 2.9x1.6mm, Pitch 0.95mm, Lead Span 2.8mm, IPC Low Density)
pins: 1 VIN (power), 2 GND (power), 3 EN (in), 4 FB (in), 5 SW (power)

## LM3671MF-3.3/NOPB
designator U?
2MHz, 600mA Step-Down DC-DC Converter, 5-pin SOT-23, Pb-Free; PartNumber: LM3671MF-3.3/NOPB; Manufacturer: National Semiconductor; PackageTopMarking: SJEB*XTT; PowerWise: Y; CompType: MiscPower; Published: 1-Mar-2010; DatasheetVersion: Oct-2008; PackageVersion: revD, Aug-2008; PackageReference: MF05A; Publisher: Altium Limited; PackageDescription: Molded SOT-23, .115 x .063 x .040 in Body, 5 Lead, .0375 in Pitch; Supplier 1: Digi-Key; Supplier Part Number 1: LM3671MF-3.3TR-ND; Supplier 2: Digi-Key; Supplier Part Number 2: LM3671MF-3.3CT-ND; Supplier 3: Digi-Key; Supplier Part Number 3: LM3671MF-3.3DKR-ND; Supplier 4: Farnell; Supplier Part Number 4: 1685767; RoHS: Y; PinCount: 5; ComponentLink1Description: LM3671 Datasheet; ComponentLink1URL: http://www.national.com/ds/LM/LM3671.pdf; ComponentLink2Description: LM3671 Web Page; ComponentLink2URL: http://www.national.com/pf/LM/LM3671.html; ComponentLink3Description: MF05A Package Page; ComponentLink3URL: http://www.national.com/packaging/folders/mf05a.html
footprint MF05A_N (SOT23, 5-Leads, Body 2.9x1.6mm, Pitch 0.95mm, Lead Span 2.8mm, IPC Medium Density)
footprint MF05A_L (SOT23, 5-Leads, Body 2.9x1.6mm, Pitch 0.95mm, Lead Span 2.8mm, IPC High Density)
footprint MF05A_M (SOT23, 5-Leads, Body 2.9x1.6mm, Pitch 0.95mm, Lead Span 2.8mm, IPC Low Density)
pins: 1 VIN (power), 2 GND (power), 3 EN (in), 4 FB (in), 5 SW (power)

## LM3671MF-ADJ
designator U?
2MHz, 600mA Step-Down DC-DC Converter, 5-pin SOT-23; PartNumber: LM3671MF-ADJ; Manufacturer: National Semiconductor; PackageTopMarking: SBTB*XTT; PowerWise: Y; CompType: MiscPower; Published: 4-Dec-2008; DatasheetVersion: Oct-2008; PackageVersion: revD, Aug-2008; PackageReference: MF05A; Publisher: Altium Limited; PackageDescription: Molded SOT-23, .115 x .063 x .040 in Body, 5 Lead, .0375 in Pitch; Supplier 1: Farnell; Supplier Part Number 1: 1008256; RoHS: N; PinCount: 5; ComponentLink1Description: LM3671 Datasheet; ComponentLink1URL: http://www.national.com/ds/LM/LM3671.pdf; ComponentLink2Description: LM3671 Web Page; ComponentLink2URL: http://www.national.com/pf/LM/LM3671.html; ComponentLink3Description: MF05A Package Page; ComponentLink3URL: http://www.national.com/packaging/folders/mf05a.html
footprint MF05A_N (SOT23, 5-Leads, Body 2.9x1.6mm, Pitch 0.95mm, Lead Span 2.8mm, IPC Medium Density)
footprint MF05A_L (SOT23, 5-Leads, Body 2.9x1.6mm, Pitch 0.95mm, Lead Span 2.8mm, IPC High Density)
footprint MF05A_M (SOT23, 5-Leads, Body 2.9x1.6mm, Pitch 0.95mm, Lead Span 2.8mm, IPC Low Density)
pins: 1 VIN (power), 2 GND (power), 3 EN (in), 4 FB (in), 5 SW (power)

## LM3671MF-ADJ/NOPB
designator U?
2MHz, 600mA Step-Down DC-DC Converter, 5-pin SOT-23, Pb-Free; PartNumber: LM3671MF-ADJ/NOPB; Manufacturer: National Semiconductor; PackageTopMarking: SBTB*XTT; PowerWise: Y; CompType: MiscPower; Published: 1-Mar-2010; DatasheetVersion: Oct-2008; PackageVersion: revD, Aug-2008; PackageReference: MF05A; Publisher: Altium Limited; PackageDescription: Molded SOT-23, .115 x .063 x .040 in Body, 5 Lead, .0375 in Pitch; Supplier 1: Digi-Key; Supplier Part Number 1: LM3671MF-ADJTR-ND; Supplier 2: Digi-Key; Supplier Part Number 2: LM3671MF-ADJCT-ND; Supplier 3: Digi-Key; Supplier Part Number 3: LM3671MF-ADJDKR-ND; Supplier 4: Farnell; Supplier Part Number 4: 1496159; RoHS: Y; PinCount: 5; ComponentLink1Description: LM3671 Datasheet; ComponentLink1URL: http://www.national.com/ds/LM/LM3671.pdf; ComponentLink2Description: LM3671 Web Page; ComponentLink2URL: http://www.national.com/pf/LM/LM3671.html; ComponentLink3Description: MF05A Package Page; ComponentLink3URL: http://www.national.com/packaging/folders/mf05a.html
footprint MF05A_N (SOT23, 5-Leads, Body 2.9x1.6mm, Pitch 0.95mm, Lead Span 2.8mm, IPC Medium Density)
footprint MF05A_L (SOT23, 5-Leads, Body 2.9x1.6mm, Pitch 0.95mm, Lead Span 2.8mm, IPC High Density)
footprint MF05A_M (SOT23, 5-Leads, Body 2.9x1.6mm, Pitch 0.95mm, Lead Span 2.8mm, IPC Low Density)
pins: 1 VIN (power), 2 GND (power), 3 EN (in), 4 FB (in), 5 SW (power)

## LM3671MFX-1.2
designator U?
2MHz, 600mA Step-Down DC-DC Converter, 5-pin SOT-23; PartNumber: LM3671MFX-1.2; Manufacturer: National Semiconductor; PackageTopMarking: SBPB*XTT; PowerWise: Y; CompType: MiscPower; Published: 1-Mar-2010; DatasheetVersion: Nov-2007; PackageVersion: revD, Aug-2008; PackageReference: MF05A; Publisher: Altium Limited; PackageDescription: Molded SOT-23, .115 x .063 x .040 in Body, 5 Lead, .0375 in Pitch; RoHS: N; PinCount: 5; ComponentLink1Description: LM3671 Datasheet; ComponentLink1URL: http://www.national.com/ds/LM/LM3671.pdf; ComponentLink2Description: LM3671 Web Page; ComponentLink2URL: http://www.national.com/pf/LM/LM3671.html; ComponentLink3Description: MF05A Package Page; ComponentLink3URL: http://www.national.com/packaging/folders/mf05a.html
footprint MF05A_N (SOT23, 5-Leads, Body 2.9x1.6mm, Pitch 0.95mm, Lead Span 2.8mm, IPC Medium Density)
footprint MF05A_L (SOT23, 5-Leads, Body 2.9x1.6mm, Pitch 0.95mm, Lead Span 2.8mm, IPC High Density)
footprint MF05A_M (SOT23, 5-Leads, Body 2.9x1.6mm, Pitch 0.95mm, Lead Span 2.8mm, IPC Low Density)
pins: 1 VIN (power), 2 GND (power), 3 EN (in), 4 FB (in), 5 SW (power)

## LM3671MFX-1.2/NOPB
designator U?
2MHz, 600mA Step-Down DC-DC Converter, 5-pin SOT-23, Pb-Free; PartNumber: LM3671MFX-1.2/NOPB; Manufacturer: National Semiconductor; PackageTopMarking: SBPB*XTT; PowerWise: Y; CompType: MiscPower; Published: 1-Mar-2010; DatasheetVersion: Nov-2007; PackageVersion: revD, Aug-2008; PackageReference: MF05A; Publisher: Altium Limited; PackageDescription: Molded SOT-23, .115 x .063 x .040 in Body, 5 Lead, .0375 in Pitch; Supplier 1: Digi-Key; Supplier Part Number 1: LM3671MFX-1.2-ND; RoHS: Y; PinCount: 5; ComponentLink1Description: LM3671 Datasheet; ComponentLink1URL: http://www.national.com/ds/LM/LM3671.pdf; ComponentLink2Description: LM3671 Web Page; ComponentLink2URL: http://www.national.com/pf/LM/LM3671.html; ComponentLink3Description: MF05A Package Page; ComponentLink3URL: http://www.national.com/packaging/folders/mf05a.html
footprint MF05A_N (SOT23, 5-Leads, Body 2.9x1.6mm, Pitch 0.95mm, Lead Span 2.8mm, IPC Medium Density)
footprint MF05A_L (SOT23, 5-Leads, Body 2.9x1.6mm, Pitch 0.95mm, Lead Span 2.8mm, IPC High Density)
footprint MF05A_M (SOT23, 5-Leads, Body 2.9x1.6mm, Pitch 0.95mm, Lead Span 2.8mm, IPC Low Density)
pins: 1 VIN (power), 2 GND (power), 3 EN (in), 4 FB (in), 5 SW (power)

## LM3671MFX-1.5
designator U?
2MHz, 600mA Step-Down DC-DC Converter, 5-pin SOT-23; PartNumber: LM3671MFX-1.5; Manufacturer: National Semiconductor; PackageTopMarking: SBRB*XTT; PowerWise: Y; CompType: MiscPower; Published: 1-Mar-2010; DatasheetVersion: Nov-2007; PackageVersion: revD, Aug-2008; PackageReference: MF05A; Publisher: Altium Limited; PackageDescription: Molded SOT-23, .115 x .063 x .040 in Body, 5 Lead, .0375 in Pitch; RoHS: N; PinCount: 5; ComponentLink1Description: LM3671 Datasheet; ComponentLink1URL: http://www.national.com/ds/LM/LM3671.pdf; ComponentLink2Description: LM3671 Web Page; ComponentLink2URL: http://www.national.com/pf/LM/LM3671.html; ComponentLink3Description: MF05A Package Page; ComponentLink3URL: http://www.national.com/packaging/folders/mf05a.html
footprint MF05A_N (SOT23, 5-Leads, Body 2.9x1.6mm, Pitch 0.95mm, Lead Span 2.8mm, IPC Medium Density)
footprint MF05A_L (SOT23, 5-Leads, Body 2.9x1.6mm, Pitch 0.95mm, Lead Span 2.8mm, IPC High Density)
footprint MF05A_M (SOT23, 5-Leads, Body 2.9x1.6mm, Pitch 0.95mm, Lead Span 2.8mm, IPC Low Density)
pins: 1 VIN (power), 2 GND (power), 3 EN (in), 4 FB (in), 5 SW (power)

## LM3671MFX-1.5/NOPB
designator U?
2MHz, 600mA Step-Down DC-DC Converter, 5-pin SOT-23, Pb-Free; PartNumber: LM3671MFX-1.5/NOPB; Manufacturer: National Semiconductor; PackageTopMarking: SBRB*XTT; PowerWise: Y; CompType: MiscPower; Published: 1-Mar-2010; DatasheetVersion: Nov-2007; PackageVersion: revD, Aug-2008; PackageReference: MF05A; Publisher: Altium Limited; PackageDescription: Molded SOT-23, .115 x .063 x .040 in Body, 5 Lead, .0375 in Pitch; Supplier 1: Digi-Key; Supplier Part Number 1: LM3671MFX-1.5-ND; RoHS: Y; PinCount: 5; ComponentLink1Description: LM3671 Datasheet; ComponentLink1URL: http://www.national.com/ds/LM/LM3671.pdf; ComponentLink2Description: LM3671 Web Page; ComponentLink2URL: http://www.national.com/pf/LM/LM3671.html; ComponentLink3Description: MF05A Package Page; ComponentLink3URL: http://www.national.com/packaging/folders/mf05a.html
footprint MF05A_N (SOT23, 5-Leads, Body 2.9x1.6mm, Pitch 0.95mm, Lead Span 2.8mm, IPC Medium Density)
footprint MF05A_L (SOT23, 5-Leads, Body 2.9x1.6mm, Pitch 0.95mm, Lead Span 2.8mm, IPC High Density)
footprint MF05A_M (SOT23, 5-Leads, Body 2.9x1.6mm, Pitch 0.95mm, Lead Span 2.8mm, IPC Low Density)
pins: 1 VIN (power), 2 GND (power), 3 EN (in), 4 FB (in), 5 SW (power)

## LM3671MFX-1.6
designator U?
2MHz, 600mA Step-Down DC-DC Converter, 5-pin SOT-23; PartNumber: LM3671MFX-1.6; Manufacturer: National Semiconductor; PackageTopMarking: SDUB*XTT; PowerWise: Y; CompType: MiscPower; Published: 1-Mar-2010; DatasheetVersion: Nov-2007; PackageVersion: revD, Aug-2008; PackageReference: MF05A; Publisher: Altium Limited; PackageDescription: Molded SOT-23, .115 x .063 x .040 in Body, 5 Lead, .0375 in Pitch; RoHS: N; PinCount: 5; ComponentLink1Description: LM3671 Datasheet; ComponentLink1URL: http://www.national.com/ds/LM/LM3671.pdf; ComponentLink2Description: LM3671 Web Page; ComponentLink2URL: http://www.national.com/pf/LM/LM3671.html; ComponentLink3Description: MF05A Package Page; ComponentLink3URL: http://www.national.com/packaging/folders/mf05a.html
footprint MF05A_N (SOT23, 5-Leads, Body 2.9x1.6mm, Pitch 0.95mm, Lead Span 2.8mm, IPC Medium Density)
footprint MF05A_L (SOT23, 5-Leads, Body 2.9x1.6mm, Pitch 0.95mm, Lead Span 2.8mm, IPC High Density)
footprint MF05A_M (SOT23, 5-Leads, Body 2.9x1.6mm, Pitch 0.95mm, Lead Span 2.8mm, IPC Low Density)
pins: 1 VIN (power), 2 GND (power), 3 EN (in), 4 FB (in), 5 SW (power)

## LM3671MFX-1.6/NOPB
designator U?
2MHz, 600mA Step-Down DC-DC Converter, 5-pin SOT-23, Pb-Free; PartNumber: LM3671MFX-1.6/NOPB; Manufacturer: National Semiconductor; PackageTopMarking: SDUB*XTT; PowerWise: Y; CompType: MiscPower; Published: 1-Mar-2010; DatasheetVersion: Nov-2007; PackageVersion: revD, Aug-2008; PackageReference: MF05A; Publisher: Altium Limited; PackageDescription: Molded SOT-23, .115 x .063 x .040 in Body, 5 Lead, .0375 in Pitch; Supplier 1: Digi-Key; Supplier Part Number 1: LM3671MFX-1.6-ND; RoHS: Y; PinCount: 5; ComponentLink1Description: LM3671 Datasheet; ComponentLink1URL: http://www.national.com/ds/LM/LM3671.pdf; ComponentLink2Description: LM3671 Web Page; ComponentLink2URL: http://www.national.com/pf/LM/LM3671.html; ComponentLink3Description: MF05A Package Page; ComponentLink3URL: http://www.national.com/packaging/folders/mf05a.html
footprint MF05A_N (SOT23, 5-Leads, Body 2.9x1.6mm, Pitch 0.95mm, Lead Span 2.8mm, IPC Medium Density)
footprint MF05A_L (SOT23, 5-Leads, Body 2.9x1.6mm, Pitch 0.95mm, Lead Span 2.8mm, IPC High Density)
footprint MF05A_M (SOT23, 5-Leads, Body 2.9x1.6mm, Pitch 0.95mm, Lead Span 2.8mm, IPC Low Density)
pins: 1 VIN (power), 2 GND (power), 3 EN (in), 4 FB (in), 5 SW (power)

## LM3671MFX-1.8
designator U?
2MHz, 600mA Step-Down DC-DC Converter, 5-pin SOT-23; PartNumber: LM3671MFX-1.8; Manufacturer: National Semiconductor; PackageTopMarking: SBSB*XTT; PowerWise: Y; CompType: MiscPower; Published: 1-Mar-2010; DatasheetVersion: Nov-2007; PackageVersion: revD, Aug-2008; PackageReference: MF05A; Publisher: Altium Limited; PackageDescription: Molded SOT-23, .115 x .063 x .040 in Body, 5 Lead, .0375 in Pitch; RoHS: N; PinCount: 5; ComponentLink1Description: LM3671 Datasheet; ComponentLink1URL: http://www.national.com/ds/LM/LM3671.pdf; ComponentLink2Description: LM3671 Web Page; ComponentLink2URL: http://www.national.com/pf/LM/LM3671.html; ComponentLink3Description: MF05A Package Page; ComponentLink3URL: http://www.national.com/packaging/folders/mf05a.html
footprint MF05A_N (SOT23, 5-Leads, Body 2.9x1.6mm, Pitch 0.95mm, Lead Span 2.8mm, IPC Medium Density)
footprint MF05A_L (SOT23, 5-Leads, Body 2.9x1.6mm, Pitch 0.95mm, Lead Span 2.8mm, IPC High Density)
footprint MF05A_M (SOT23, 5-Leads, Body 2.9x1.6mm, Pitch 0.95mm, Lead Span 2.8mm, IPC Low Density)
pins: 1 VIN (power), 2 GND (power), 3 EN (in), 4 FB (in), 5 SW (power)